# Altium schematic symbol library Mechanical.SchLib: 9 symbols
Pins are listed as number, name and electrical type; pins without a type are passive.

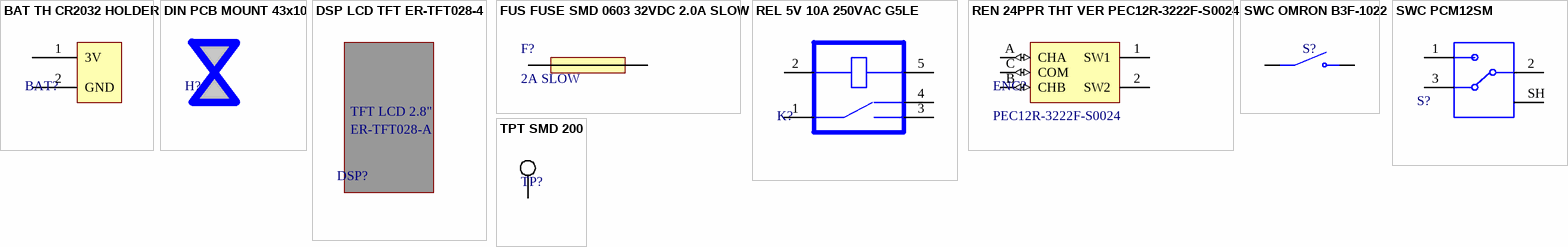
[diagram p0: symbols BAT TH CR2032 HOLDER to TPT SMD 200]

## BAT TH CR2032 HOLDER
designator BAT?
KZH 20P
footprint THT BAT CR2032 HOLDER
pins: 1 3V (power), 2 GND (power)

## DIN PCB MOUNT 43x10
designator H?
footprint DIN PCB MOUNT 43x10

## DSP LCD TFT ER-TFT028-4
designator DSP?
footprint DSP ER-TFT028-4
text: TFT LCD 2.8"; ER-TFT028-A

## FUS FUSE SMD 0603 32VDC 2.0A SLOW
designator F?, comment 2A SLOW
https://lcsc.com/product-detail/Fuses_AEM-F0603SB2000V032TM_C310945.html
footprint SMD 0603 GENERIC
pins: 1, 2

## REL 5V 10A 250VAC G5LE
designator K?
footprint THT RELAY G5LE
pins: 1, 2, 3, 4, 5

## REN 24PPR THT VER PEC12R-3222F-S0024
designator ENC?, comment PEC12R-3222F-S0024
footprint THT REN PEC12R-3222F-S0024
pins: 1 SW1, 2 SW2, A CHA (io), B CHB (io), C COM (io)

## SWC OMRON B3F-1022
designator S?
footprint THT SWC OMRON B3F-1022
pins: 1 COM, 2 COM, 3 NO, 4 NO

## SWC PCM12SM
designator S?
footprint SMD SWC PCM12
pins: 1, 2, 3, SH

## TPT SMD 200
designator TP?
footprint SMD TP 2.0mm
pins: 1